# Altium schematic symbol library kmilo17pet-TI_MSP430.SchLib: 1463 symbols (part 46 of 130)
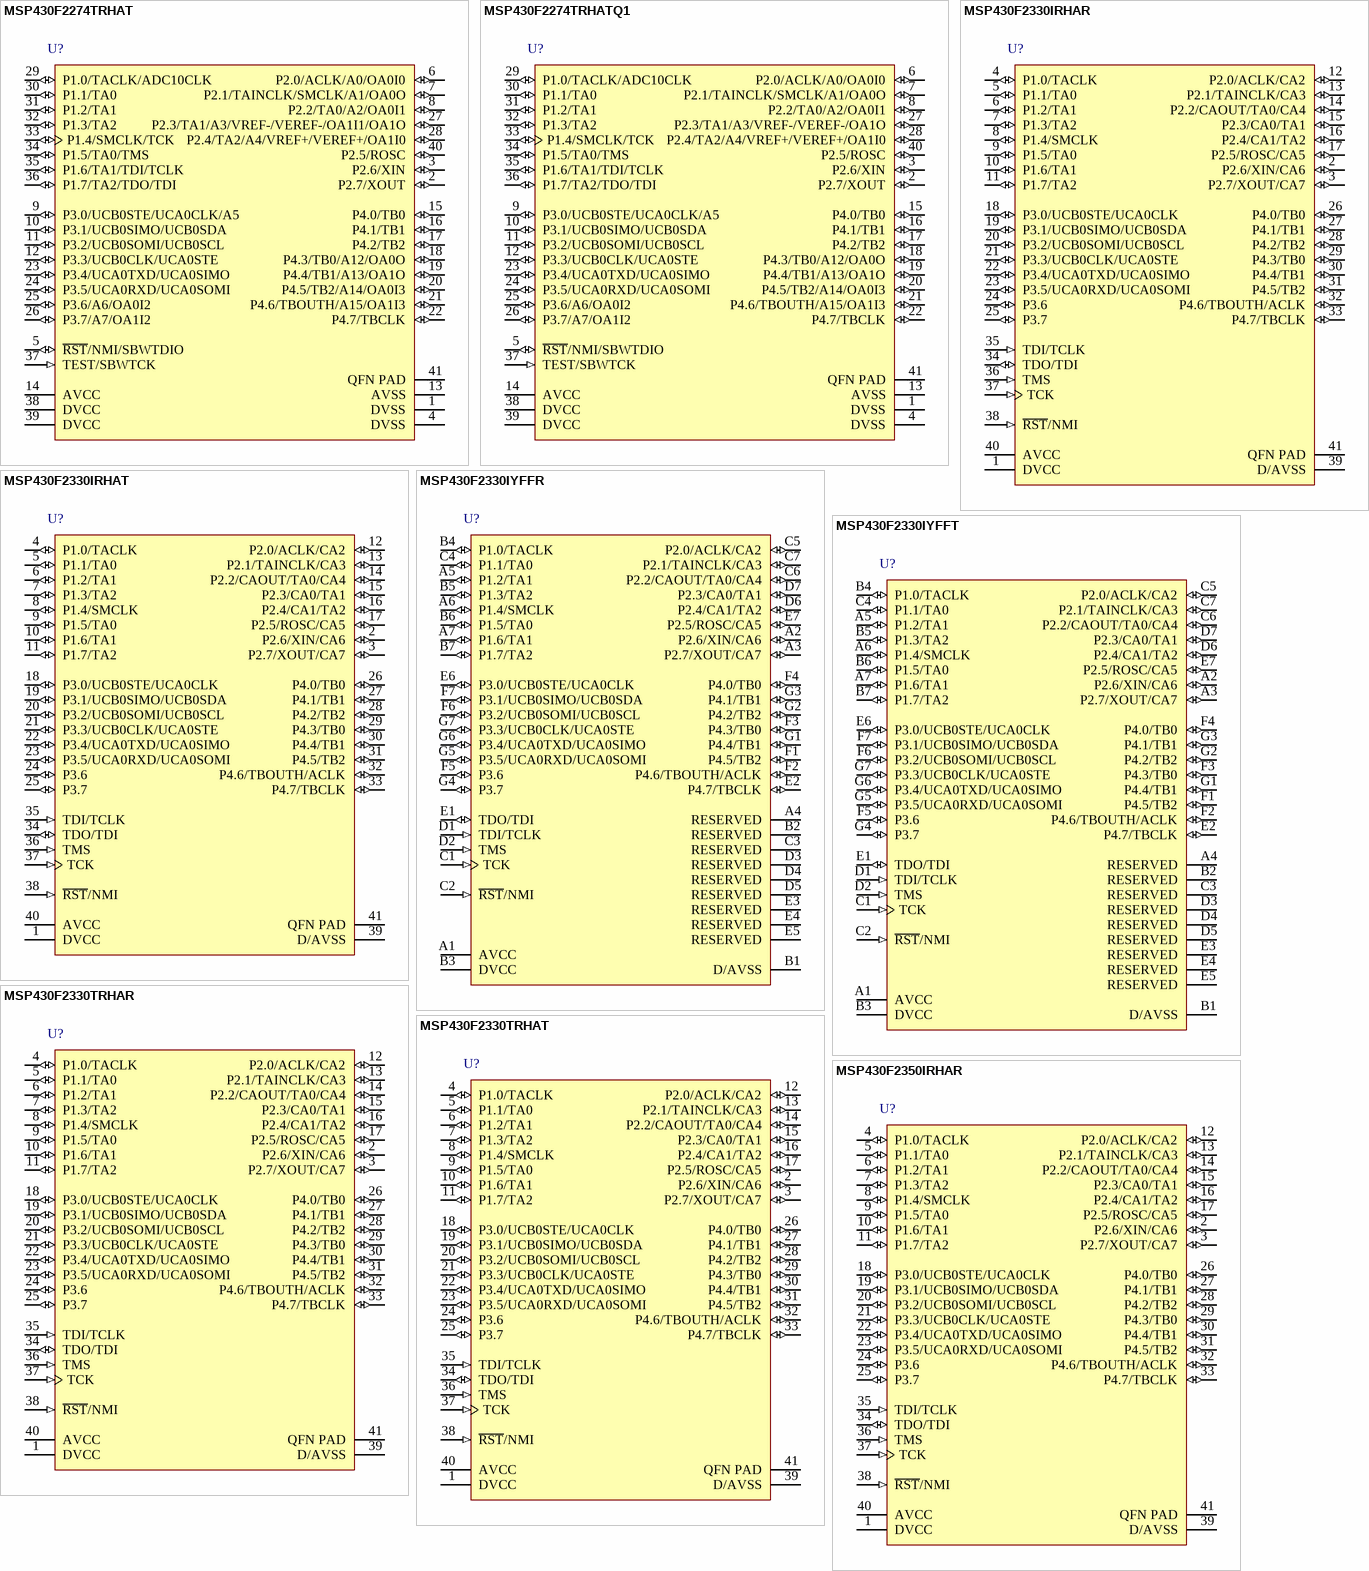
[diagram p359: symbols MSP430F2274TRHAT to MSP430F2350IRHAR]

## MSP430F2330IRHAR
designator U?
16 MHz Mixed Signal Microcontroller With 8 KB Flash, 1024 B SRAM and 32 GPIOs, -40 to 85 degC,40-pin QFN (RHA), Green (RoHS & no Sb/Br); Manufacturer: Texas Instruments; PartNumber: MSP430F2330IRHAR; ADC: Slope; Brown Out Reset: Yes; Flash(KB): 8; Frequency(MHz): 16; GPIO: 32; Multiplier: 16x16; SRAM(B): 1024; SubFamily: 2 Series, Extended Temp; Timers - 16-bit: 2; USCI_A (UART/LIN/IrDA/SPI): 1; DatasheetVersion: SLAS518E; PackageVersion: 4204276/E; PackageReference: RHA40-4150X4150TP; PackageDescription: 40-Pin Plastic Flat Pack, Body 6 x 6 mm, Pitch 0.5 mm; Supplier 1: Mouser; Supplier Part Number 1: N/A; Comparators: Yes; Eco-Plan: Green (RoHS & no Sb/Br); USCI_B (I2C & SPI): 1; Watchdog: Yes; Mounting Technology: Surface Mount; Code_JEDEC: MO-220; ComponentLink1Description: Manufacturer URL; ComponentLink1URL: http://www.ti.com/; ComponentLink2Description: Datasheet; ComponentLink2URL: http://www.ti.com/general/docs/lit/getliterature.tsp?genericPartNumber=MSP430F2330&fileType=pdf; ComponentLink3Description: Package Specification; ComponentLink3URL: http://www.ti.com/litv/pdf/mpqf135c
footprint TI-RHA40-4150X4150TP_N (QFN, 40-Leads, Body 6x6mm, Pitch 0.5mm, Thermal Pad 4.15x4.15mm, IPC Medium Density)
pins: 1 DVCC (power) "Digital supply voltage, positive terminal. Supplies all digital parts.", 2 P2.6/XIN/CA6 (io), 3 P2.7/XOUT/CA7 (io), 4 P1.0/TACLK (io), 5 P1.1/TA0 (io), 6 P1.2/TA1 (io), 7 P1.3/TA2 (io), 8 P1.4/SMCLK (io), 9 P1.5/TA0 (io), 10 P1.6/TA1 (io), 11 P1.7/TA2 (io), 12 P2.0/ACLK/CA2 (io), 13 P2.1/TAINCLK/CA3 (io), 14 P2.2/CAOUT/TA0/CA4 (io), 15 P2.3/CA0/TA1 (io), 16 P2.4/CA1/TA2 (io), 17 P2.5/ROSC/CA5 (io), 18 P3.0/UCB0STE/UCA0CLK (io), 19 P3.1/UCB0SIMO/UCB0SDA (io), 20 P3.2/UCB0SOMI/UCB0SCL (io), 21 P3.3/UCB0CLK/UCA0STE (io), 22 P3.4/UCA0TXD/UCA0SIMO (io), 23 P3.5/UCA0RXD/UCA0SOMI (io), 24 P3.6 (io) "General-purpose digital I/O pin", 25 P3.7 (io) "General-purpose digital I/O pin", 26 P4.0/TB0 (io), 27 P4.1/TB1 (io), 28 P4.2/TB2 (io), 29 P4.3/TB0 (io), 30 P4.4/TB1 (io), 31 P4.5/TB2 (io), 32 P4.6/TBOUTH/ACLK (io), 33 P4.7/TBCLK (io), 34 TDO/TDI (io), 35 TDI/TCLK (in), 36 TMS (in) "Test mode select. TMS is used as an input port for device programming and test.", 37 TCK (in) "Test clock. TCK is the clock input port for device programming and test.", 38 ~{RST}/NMI (in), 39 D/AVSS (power), 40 AVCC (power) "Analog supply voltage, positive terminal", 41 QFN PAD (power) "QFN package pad. Connection to D/AVSS recommended."

## MSP430F2330IRHAT
designator U?
16 MHz Mixed Signal Microcontroller With 8 KB Flash, 1024 B SRAM and 32 GPIOs, -40 to 85 degC,40-pin QFN (RHA), Green (RoHS & no Sb/Br); Manufacturer: Texas Instruments; PartNumber: MSP430F2330IRHAT; ADC: Slope; Brown Out Reset: Yes; Flash(KB): 8; Frequency(MHz): 16; GPIO: 32; Multiplier: 16x16; SRAM(B): 1024; SubFamily: 2 Series, Extended Temp; Timers - 16-bit: 2; USCI_A (UART/LIN/IrDA/SPI): 1; DatasheetVersion: SLAS518E; PackageVersion: 4204276/E; PackageReference: RHA40-4150X4150TP; PackageDescription: 40-Pin Plastic Flat Pack, Body 6 x 6 mm, Pitch 0.5 mm; Supplier 1: Digi-Key; Supplier Part Number 1: MSP430F2330IRHAR-ND; Supplier 2: Newark; Supplier Part Number 2: 45M9654; Supplier 3: Mouser; Supplier Part Number 3: 595-MSP430F2330IRHAR; Comparators: Yes; Eco-Plan: Green (RoHS & no Sb/Br); USCI_B (I2C & SPI): 1; Watchdog: Yes; Mounting Technology: Surface Mount; Code_JEDEC: MO-220; ComponentLink1Description: Manufacturer URL; ComponentLink1URL: http://www.ti.com/; ComponentLink2Description: Datasheet; ComponentLink2URL: http://www.ti.com/general/docs/lit/getliterature.tsp?genericPartNumber=MSP430F2330&fileType=pdf; ComponentLink3Description: Package Specification; ComponentLink3URL: http://www.ti.com/litv/pdf/mpqf135c
footprint TI-RHA40-4150X4150TP_N (QFN, 40-Leads, Body 6x6mm, Pitch 0.5mm, Thermal Pad 4.15x4.15mm, IPC Medium Density)
pins: 1 DVCC (power) "Digital supply voltage, positive terminal. Supplies all digital parts.", 2 P2.6/XIN/CA6 (io), 3 P2.7/XOUT/CA7 (io), 4 P1.0/TACLK (io), 5 P1.1/TA0 (io), 6 P1.2/TA1 (io), 7 P1.3/TA2 (io), 8 P1.4/SMCLK (io), 9 P1.5/TA0 (io), 10 P1.6/TA1 (io), 11 P1.7/TA2 (io), 12 P2.0/ACLK/CA2 (io), 13 P2.1/TAINCLK/CA3 (io), 14 P2.2/CAOUT/TA0/CA4 (io), 15 P2.3/CA0/TA1 (io), 16 P2.4/CA1/TA2 (io), 17 P2.5/ROSC/CA5 (io), 18 P3.0/UCB0STE/UCA0CLK (io), 19 P3.1/UCB0SIMO/UCB0SDA (io), 20 P3.2/UCB0SOMI/UCB0SCL (io), 21 P3.3/UCB0CLK/UCA0STE (io), 22 P3.4/UCA0TXD/UCA0SIMO (io), 23 P3.5/UCA0RXD/UCA0SOMI (io), 24 P3.6 (io) "General-purpose digital I/O pin", 25 P3.7 (io) "General-purpose digital I/O pin", 26 P4.0/TB0 (io), 27 P4.1/TB1 (io), 28 P4.2/TB2 (io), 29 P4.3/TB0 (io), 30 P4.4/TB1 (io), 31 P4.5/TB2 (io), 32 P4.6/TBOUTH/ACLK (io), 33 P4.7/TBCLK (io), 34 TDO/TDI (io), 35 TDI/TCLK (in), 36 TMS (in) "Test mode select. TMS is used as an input port for device programming and test.", 37 TCK (in) "Test clock. TCK is the clock input port for device programming and test.", 38 ~{RST}/NMI (in), 39 D/AVSS (power), 40 AVCC (power) "Analog supply voltage, positive terminal", 41 QFN PAD (power) "QFN package pad. Connection to D/AVSS recommended."

## MSP430F2330IYFFR
designator U?
16 MHz Mixed Signal Microcontroller With 8 KB Flash, 1024 B SRAM and 32 GPIOs, -40 to 85 degC, 49-pin BGA (YFF), Green (RoHS & no Sb/Br); Manufacturer: Texas Instruments; PartNumber: MSP430F2330IYFFR; ADC: Slope; Brown Out Reset: Yes; Flash(KB): 8; Frequency(MHz): 16; GPIO: 32; Multiplier: 16x16; SRAM(B): 1024; SubFamily: 2 Series, Extended Temp; Timers - 16-bit: 2; USCI_A (UART/LIN/IrDA/SPI): 1; DatasheetVersion: SLAS518E; PackageVersion: 4207625-16/AH; PackageReference: YFF49; PackageDescription: 49-Ball Silicon Grid Array, Body 3.2 x 3.2 mm, Pitch 0.4 mm; Supplier 1: Digi-Key; Supplier Part Number 1: 296-21746-2-ND; Supplier 2: Digi-Key; Supplier Part Number 2: 296-21746-1-ND; Supplier 3: Digi-Key; Supplier Part Number 3: 296-21746-6-ND; Supplier 4: Farnell; Supplier Part Number 4: 1649426; Supplier 5: Newark; Supplier Part Number 5: 45M9655; Supplier 6: Newark; Supplier Part Number 6: 15P0275; Supplier 7: Mouser; Supplier Part Number 7: 595-MSP430F2330IRHAT; Comparators: Yes; Eco-Plan: Green (RoHS & no Sb/Br); USCI_B (I2C & SPI): 1; Watchdog: Yes; Mounting Technology: Surface Mount; ComponentLink1Description: Manufacturer URL; ComponentLink1URL: http://www.ti.com/; ComponentLink2Description: Datasheet; ComponentLink2URL: http://www.ti.com/general/docs/lit/getliterature.tsp?genericPartNumber=MSP430F2330&fileType=pdf; ComponentLink3Description: Package Specification; ComponentLink3URL: http://www.ti.com/lit/ds/symlink/msp430f2350.pdf
footprint TI-YFF49-3200X3200DE (BGA, 49-Balls, Body 3.2x3.2mm, Pitch 0.4mm)
pins: A1 AVCC (power) "Analog supply voltage, positive terminal", A2 P2.6/XIN/CA6 (io), A3 P2.7/XOUT/CA7 (io), A4 RESERVED "BGA package GND balls. Connection to DVSS/AVSS is recommended.", A5 P1.2/TA1 (io), A6 P1.4/SMCLK (io), A7 P1.6/TA1 (io), B1 D/AVSS (power), B2 RESERVED "BGA package GND balls. Connection to DVSS/AVSS is recommended.", B3 DVCC (power) "Digital supply voltage, positive terminal. Supplies all digital parts", B4 P1.0/TACLK (io), B5 P1.3/TA2 (io), B6 P1.5/TA0 (io), B7 P1.7/TA2 (io), C1 TCK (in) "Test clock. TCK is the clock input port for device programming and test.", C2 ~{RST}/NMI (in), C3 RESERVED "BGA package GND balls. Connection to DVSS/AVSS is recommended.", C4 P1.1/TA0 (io), C5 P2.0/ACLK/CA2 (io), C6 P2.2/CAOUT/TA0/CA4 (io), C7 P2.1/TAINCLK/CA3 (io), D1 TDI/TCLK (in), D2 TMS (in) "Test mode select. TMS is used as an input port for device programming and test.", D3 RESERVED "BGA package GND balls. Connection to DVSS/AVSS is recommended.", D4 RESERVED "BGA package GND balls. Connection to DVSS/AVSS is recommended.", D5 RESERVED "BGA package GND balls. Connection to DVSS/AVSS is recommended.", D6 P2.4/CA1/TA2 (io), D7 P2.3/CA0/TA1 (io), E1 TDO/TDI (io), E2 P4.7/TBCLK (io), E3 RESERVED "BGA package GND balls. Connection to DVSS/AVSS is recommended.", E4 RESERVED "BGA package GND balls. Connection to DVSS/AVSS is recommended.", E5 RESERVED "BGA package GND balls. Connection to DVSS/AVSS is recommended.", E6 P3.0/UCB0STE/UCA0CLK (io), E7 P2.5/ROSC/CA5 (io), F1 P4.5/TB2 (io), F2 P4.6/TBOUTH/ACLK (io), F3 P4.3/TB0 (io), F4 P4.0/TB0 (io), F5 P3.6 (io) "General-purpose digital I/O pin", F6 P3.2/UCB0SOMI/UCB0SCL (io), F7 P3.1/UCB0SIMO/UCB0SDA (io), G1 P4.4/TB1 (io), G2 P4.2/TB2 (io), G3 P4.1/TB1 (io), G4 P3.7 (io) "General-purpose digital I/O pin", G5 P3.5/UCA0RXD/UCA0SOMI (io), G6 P3.4/UCA0TXD/UCA0SIMO (io), G7 P3.3/UCB0CLK/UCA0STE (io)

## MSP430F2330IYFFT
designator U?
16 MHz Mixed Signal Microcontroller With 8 KB Flash, 1024 B SRAM and 32 GPIOs, -40 to 85 degC, 49-pin BGA (YFF), Green (RoHS & no Sb/Br); Manufacturer: Texas Instruments; PartNumber: MSP430F2330IYFFT; ADC: Slope; Brown Out Reset: Yes; Flash(KB): 8; Frequency(MHz): 16; GPIO: 32; Multiplier: 16x16; SRAM(B): 1024; SubFamily: 2 Series, Extended Temp; Timers - 16-bit: 2; USCI_A (UART/LIN/IrDA/SPI): 1; DatasheetVersion: SLAS518E; PackageVersion: 4207625-16/AH; PackageReference: YFF49; PackageDescription: 49-Ball Silicon Grid Array, Body 3.2 x 3.2 mm, Pitch 0.4 mm; Supplier 1: Digi-Key; Supplier Part Number 1: MSP430F2330IYFFR-ND; Supplier 2: Mouser; Supplier Part Number 2: 595-MSP430F2330IYFFR; Comparators: Yes; Eco-Plan: Green (RoHS & no Sb/Br); USCI_B (I2C & SPI): 1; Watchdog: Yes; Mounting Technology: Surface Mount; ComponentLink1Description: Manufacturer URL; ComponentLink1URL: http://www.ti.com/; ComponentLink2Description: Datasheet; ComponentLink2URL: http://www.ti.com/general/docs/lit/getliterature.tsp?genericPartNumber=MSP430F2330&fileType=pdf; ComponentLink3Description: Package Specification; ComponentLink3URL: http://www.ti.com/lit/ds/symlink/msp430f2350.pdf
footprint TI-YFF49-3200X3200DE (BGA, 49-Balls, Body 3.2x3.2mm, Pitch 0.4mm)
pins: A1 AVCC (power) "Analog supply voltage, positive terminal", A2 P2.6/XIN/CA6 (io), A3 P2.7/XOUT/CA7 (io), A4 RESERVED "BGA package GND balls. Connection to DVSS/AVSS is recommended.", A5 P1.2/TA1 (io), A6 P1.4/SMCLK (io), A7 P1.6/TA1 (io), B1 D/AVSS (power), B2 RESERVED "BGA package GND balls. Connection to DVSS/AVSS is recommended.", B3 DVCC (power) "Digital supply voltage, positive terminal. Supplies all digital parts", B4 P1.0/TACLK (io), B5 P1.3/TA2 (io), B6 P1.5/TA0 (io), B7 P1.7/TA2 (io), C1 TCK (in) "Test clock. TCK is the clock input port for device programming and test.", C2 ~{RST}/NMI (in), C3 RESERVED "BGA package GND balls. Connection to DVSS/AVSS is recommended.", C4 P1.1/TA0 (io), C5 P2.0/ACLK/CA2 (io), C6 P2.2/CAOUT/TA0/CA4 (io), C7 P2.1/TAINCLK/CA3 (io), D1 TDI/TCLK (in), D2 TMS (in) "Test mode select. TMS is used as an input port for device programming and test.", D3 RESERVED "BGA package GND balls. Connection to DVSS/AVSS is recommended.", D4 RESERVED "BGA package GND balls. Connection to DVSS/AVSS is recommended.", D5 RESERVED "BGA package GND balls. Connection to DVSS/AVSS is recommended.", D6 P2.4/CA1/TA2 (io), D7 P2.3/CA0/TA1 (io), E1 TDO/TDI (io), E2 P4.7/TBCLK (io), E3 RESERVED "BGA package GND balls. Connection to DVSS/AVSS is recommended.", E4 RESERVED "BGA package GND balls. Connection to DVSS/AVSS is recommended.", E5 RESERVED "BGA package GND balls. Connection to DVSS/AVSS is recommended.", E6 P3.0/UCB0STE/UCA0CLK (io), E7 P2.5/ROSC/CA5 (io), F1 P4.5/TB2 (io), F2 P4.6/TBOUTH/ACLK (io), F3 P4.3/TB0 (io), F4 P4.0/TB0 (io), F5 P3.6 (io) "General-purpose digital I/O pin", F6 P3.2/UCB0SOMI/UCB0SCL (io), F7 P3.1/UCB0SIMO/UCB0SDA (io), G1 P4.4/TB1 (io), G2 P4.2/TB2 (io), G3 P4.1/TB1 (io), G4 P3.7 (io) "General-purpose digital I/O pin", G5 P3.5/UCA0RXD/UCA0SOMI (io), G6 P3.4/UCA0TXD/UCA0SIMO (io), G7 P3.3/UCB0CLK/UCA0STE (io)

## MSP430F2330TRHAR
designator U?
16 MHz Mixed Signal Microcontroller With 8 KB Flash, 1024 B SRAM and 32 GPIOs, -40 to 105 degC, 40-pin QFN (RHA), Green (RoHS & no Sb/Br); Manufacturer: Texas Instruments; PartNumber: MSP430F2330TRHAR; ADC: Slope; Brown Out Reset: Yes; Flash(KB): 8; Frequency(MHz): 16; GPIO: 32; Multiplier: 16x16; SRAM(B): 1024; SubFamily: 2 Series, Extended Temp; Timers - 16-bit: 2; USCI_A (UART/LIN/IrDA/SPI): 1; DatasheetVersion: SLAS518E; PackageVersion: 4204276/E; PackageReference: RHA40-4150X4150TP; PackageDescription: 40-Pin Plastic Flat Pack, Body 6 x 6 mm, Pitch 0.5 mm; Supplier 1: Digi-Key; Supplier Part Number 1: MSP430F2330IYFFT-ND; Supplier 2: Mouser; Supplier Part Number 2: 595-MSP430F2330IYFFT; Comparators: Yes; Eco-Plan: Green (RoHS & no Sb/Br); USCI_B (I2C & SPI): 1; Watchdog: Yes; Mounting Technology: Surface Mount; Code_JEDEC: MO-220; ComponentLink1Description: Manufacturer URL; ComponentLink1URL: http://www.ti.com/; ComponentLink2Description: Datasheet; ComponentLink2URL: http://www.ti.com/general/docs/lit/getliterature.tsp?genericPartNumber=MSP430F2330&fileType=pdf; ComponentLink3Description: Package Specification; ComponentLink3URL: http://www.ti.com/litv/pdf/mpqf135c
footprint TI-RHA40-4150X4150TP_N (QFN, 40-Leads, Body 6x6mm, Pitch 0.5mm, Thermal Pad 4.15x4.15mm, IPC Medium Density)
pins: 1 DVCC (power) "Digital supply voltage, positive terminal. Supplies all digital parts.", 2 P2.6/XIN/CA6 (io), 3 P2.7/XOUT/CA7 (io), 4 P1.0/TACLK (io), 5 P1.1/TA0 (io), 6 P1.2/TA1 (io), 7 P1.3/TA2 (io), 8 P1.4/SMCLK (io), 9 P1.5/TA0 (io), 10 P1.6/TA1 (io), 11 P1.7/TA2 (io), 12 P2.0/ACLK/CA2 (io), 13 P2.1/TAINCLK/CA3 (io), 14 P2.2/CAOUT/TA0/CA4 (io), 15 P2.3/CA0/TA1 (io), 16 P2.4/CA1/TA2 (io), 17 P2.5/ROSC/CA5 (io), 18 P3.0/UCB0STE/UCA0CLK (io), 19 P3.1/UCB0SIMO/UCB0SDA (io), 20 P3.2/UCB0SOMI/UCB0SCL (io), 21 P3.3/UCB0CLK/UCA0STE (io), 22 P3.4/UCA0TXD/UCA0SIMO (io), 23 P3.5/UCA0RXD/UCA0SOMI (io), 24 P3.6 (io) "General-purpose digital I/O pin", 25 P3.7 (io) "General-purpose digital I/O pin", 26 P4.0/TB0 (io), 27 P4.1/TB1 (io), 28 P4.2/TB2 (io), 29 P4.3/TB0 (io), 30 P4.4/TB1 (io), 31 P4.5/TB2 (io), 32 P4.6/TBOUTH/ACLK (io), 33 P4.7/TBCLK (io), 34 TDO/TDI (io), 35 TDI/TCLK (in), 36 TMS (in) "Test mode select. TMS is used as an input port for device programming and test.", 37 TCK (in) "Test clock. TCK is the clock input port for device programming and test.", 38 ~{RST}/NMI (in), 39 D/AVSS (power), 40 AVCC (power) "Analog supply voltage, positive terminal", 41 QFN PAD (power) "QFN package pad. Connection to D/AVSS recommended."

## MSP430F2330TRHAT
designator U?
16 MHz Mixed Signal Microcontroller With 8 KB Flash, 1024 B SRAM and 32 GPIOs, -40 to 105 degC, 40-pin QFN (RHA), Green (RoHS & no Sb/Br); Manufacturer: Texas Instruments; PartNumber: MSP430F2330TRHAT; ADC: Slope; Brown Out Reset: Yes; Flash(KB): 8; Frequency(MHz): 16; GPIO: 32; Multiplier: 16x16; SRAM(B): 1024; SubFamily: 2 Series, Extended Temp; Timers - 16-bit: 2; USCI_A (UART/LIN/IrDA/SPI): 1; DatasheetVersion: SLAS518E; PackageVersion: 4204276/E; PackageReference: RHA40-4150X4150TP; PackageDescription: 40-Pin Plastic Flat Pack, Body 6 x 6 mm, Pitch 0.5 mm; Supplier 1: Digi-Key; Supplier Part Number 1: MSP430F2330TRHAR-ND; Supplier 2: Mouser; Supplier Part Number 2: 595-MSP430F2330TRHAR; Comparators: Yes; Eco-Plan: Green (RoHS & no Sb/Br); USCI_B (I2C & SPI): 1; Watchdog: Yes; Mounting Technology: Surface Mount; Code_JEDEC: MO-220; ComponentLink1Description: Manufacturer URL; ComponentLink1URL: http://www.ti.com/; ComponentLink2Description: Datasheet; ComponentLink2URL: http://www.ti.com/general/docs/lit/getliterature.tsp?genericPartNumber=MSP430F2330&fileType=pdf; ComponentLink3Description: Package Specification; ComponentLink3URL: http://www.ti.com/litv/pdf/mpqf135c
footprint TI-RHA40-4150X4150TP_N (QFN, 40-Leads, Body 6x6mm, Pitch 0.5mm, Thermal Pad 4.15x4.15mm, IPC Medium Density)
pins: 1 DVCC (power) "Digital supply voltage, positive terminal. Supplies all digital parts.", 2 P2.6/XIN/CA6 (io), 3 P2.7/XOUT/CA7 (io), 4 P1.0/TACLK (io), 5 P1.1/TA0 (io), 6 P1.2/TA1 (io), 7 P1.3/TA2 (io), 8 P1.4/SMCLK (io), 9 P1.5/TA0 (io), 10 P1.6/TA1 (io), 11 P1.7/TA2 (io), 12 P2.0/ACLK/CA2 (io), 13 P2.1/TAINCLK/CA3 (io), 14 P2.2/CAOUT/TA0/CA4 (io), 15 P2.3/CA0/TA1 (io), 16 P2.4/CA1/TA2 (io), 17 P2.5/ROSC/CA5 (io), 18 P3.0/UCB0STE/UCA0CLK (io), 19 P3.1/UCB0SIMO/UCB0SDA (io), 20 P3.2/UCB0SOMI/UCB0SCL (io), 21 P3.3/UCB0CLK/UCA0STE (io), 22 P3.4/UCA0TXD/UCA0SIMO (io), 23 P3.5/UCA0RXD/UCA0SOMI (io), 24 P3.6 (io) "General-purpose digital I/O pin", 25 P3.7 (io) "General-purpose digital I/O pin", 26 P4.0/TB0 (io), 27 P4.1/TB1 (io), 28 P4.2/TB2 (io), 29 P4.3/TB0 (io), 30 P4.4/TB1 (io), 31 P4.5/TB2 (io), 32 P4.6/TBOUTH/ACLK (io), 33 P4.7/TBCLK (io), 34 TDO/TDI (io), 35 TDI/TCLK (in), 36 TMS (in) "Test mode select. TMS is used as an input port for device programming and test.", 37 TCK (in) "Test clock. TCK is the clock input port for device programming and test.", 38 ~{RST}/NMI (in), 39 D/AVSS (power), 40 AVCC (power) "Analog supply voltage, positive terminal", 41 QFN PAD (power) "QFN package pad. Connection to D/AVSS recommended."

## MSP430F2350IRHAR
designator U?
16 MHz Mixed Signal Microcontroller with 16 KB Flash, 2048 B SRAM and 32 GPIOs, -40 to 85 degC, 40-pin QFN (RHA), Green (RoHS & no Sb/Br); Manufacturer: Texas Instruments; PartNumber: MSP430F2350IRHAR; ADC: Slope; Brown Out Reset: Yes; Flash(KB): 16; GPIO: 32; Multiplier: 16x16; SRAM(B): 2048; SubFamily: 2 Series, Extended Temp; Timers - 16-bit: 2; USCI_A (UART/LIN/IrDA/SPI): 1; DatasheetVersion: SLAS518E; PackageVersion: 4204276/E; PackageReference: RHA40-4150X4150TP; PackageDescription: 40-Pin Plastic Flat Pack, Body 6 x 6 mm, Pitch 0.5 mm; Supplier 1: Digi-Key; Supplier Part Number 1: 296-31685-2-ND; Supplier 2: Digi-Key; Supplier Part Number 2: 296-31685-1-ND; Supplier 3: Digi-Key; Supplier Part Number 3: 296-31685-6-ND; Supplier 4: Farnell; Supplier Part Number 4: 1649429; Supplier 5: Newark; Supplier Part Number 5: 65M1697; Supplier 6: Mouser; Supplier Part Number 6: 595-MSP430F233TRGCT; Comparators: Yes; Eco-Plan: Green (RoHS & no Sb/Br); Frequency(MHz): 16; USCI_B (I2C & SPI): 1; Watchdog: Yes; Mounting Technology: Surface Mount; Code_JEDEC: MO-220; ComponentLink1Description: Manufacturer URL; ComponentLink1URL: http://www.ti.com/; ComponentLink2Description: Datasheet; ComponentLink2URL: http://www.ti.com/general/docs/lit/getliterature.tsp?genericPartNumber=MSP430F2350&fileType=pdf; ComponentLink3Description: Package Specification; ComponentLink3URL: http://www.ti.com/litv/pdf/mpqf135c
footprint TI-RHA40-4150X4150TP_N (QFN, 40-Leads, Body 6x6mm, Pitch 0.5mm, Thermal Pad 4.15x4.15mm, IPC Medium Density)
pins: 1 DVCC (power) "Digital supply voltage, positive terminal. Supplies all digital parts.", 2 P2.6/XIN/CA6 (io), 3 P2.7/XOUT/CA7 (io), 4 P1.0/TACLK (io), 5 P1.1/TA0 (io), 6 P1.2/TA1 (io), 7 P1.3/TA2 (io), 8 P1.4/SMCLK (io), 9 P1.5/TA0 (io), 10 P1.6/TA1 (io), 11 P1.7/TA2 (io), 12 P2.0/ACLK/CA2 (io), 13 P2.1/TAINCLK/CA3 (io), 14 P2.2/CAOUT/TA0/CA4 (io), 15 P2.3/CA0/TA1 (io), 16 P2.4/CA1/TA2 (io), 17 P2.5/ROSC/CA5 (io), 18 P3.0/UCB0STE/UCA0CLK (io), 19 P3.1/UCB0SIMO/UCB0SDA (io), 20 P3.2/UCB0SOMI/UCB0SCL (io), 21 P3.3/UCB0CLK/UCA0STE (io), 22 P3.4/UCA0TXD/UCA0SIMO (io), 23 P3.5/UCA0RXD/UCA0SOMI (io), 24 P3.6 (io) "General-purpose digital I/O pin", 25 P3.7 (io) "General-purpose digital I/O pin", 26 P4.0/TB0 (io), 27 P4.1/TB1 (io), 28 P4.2/TB2 (io), 29 P4.3/TB0 (io), 30 P4.4/TB1 (io), 31 P4.5/TB2 (io), 32 P4.6/TBOUTH/ACLK (io), 33 P4.7/TBCLK (io), 34 TDO/TDI (io), 35 TDI/TCLK (in), 36 TMS (in) "Test mode select. TMS is used as an input port for device programming and test.", 37 TCK (in) "Test clock. TCK is the clock input port for device programming and test.", 38 ~{RST}/NMI (in), 39 D/AVSS (power), 40 AVCC (power) "Analog supply voltage, positive terminal", 41 QFN PAD (power) "QFN package pad. Connection to D/AVSS recommended."

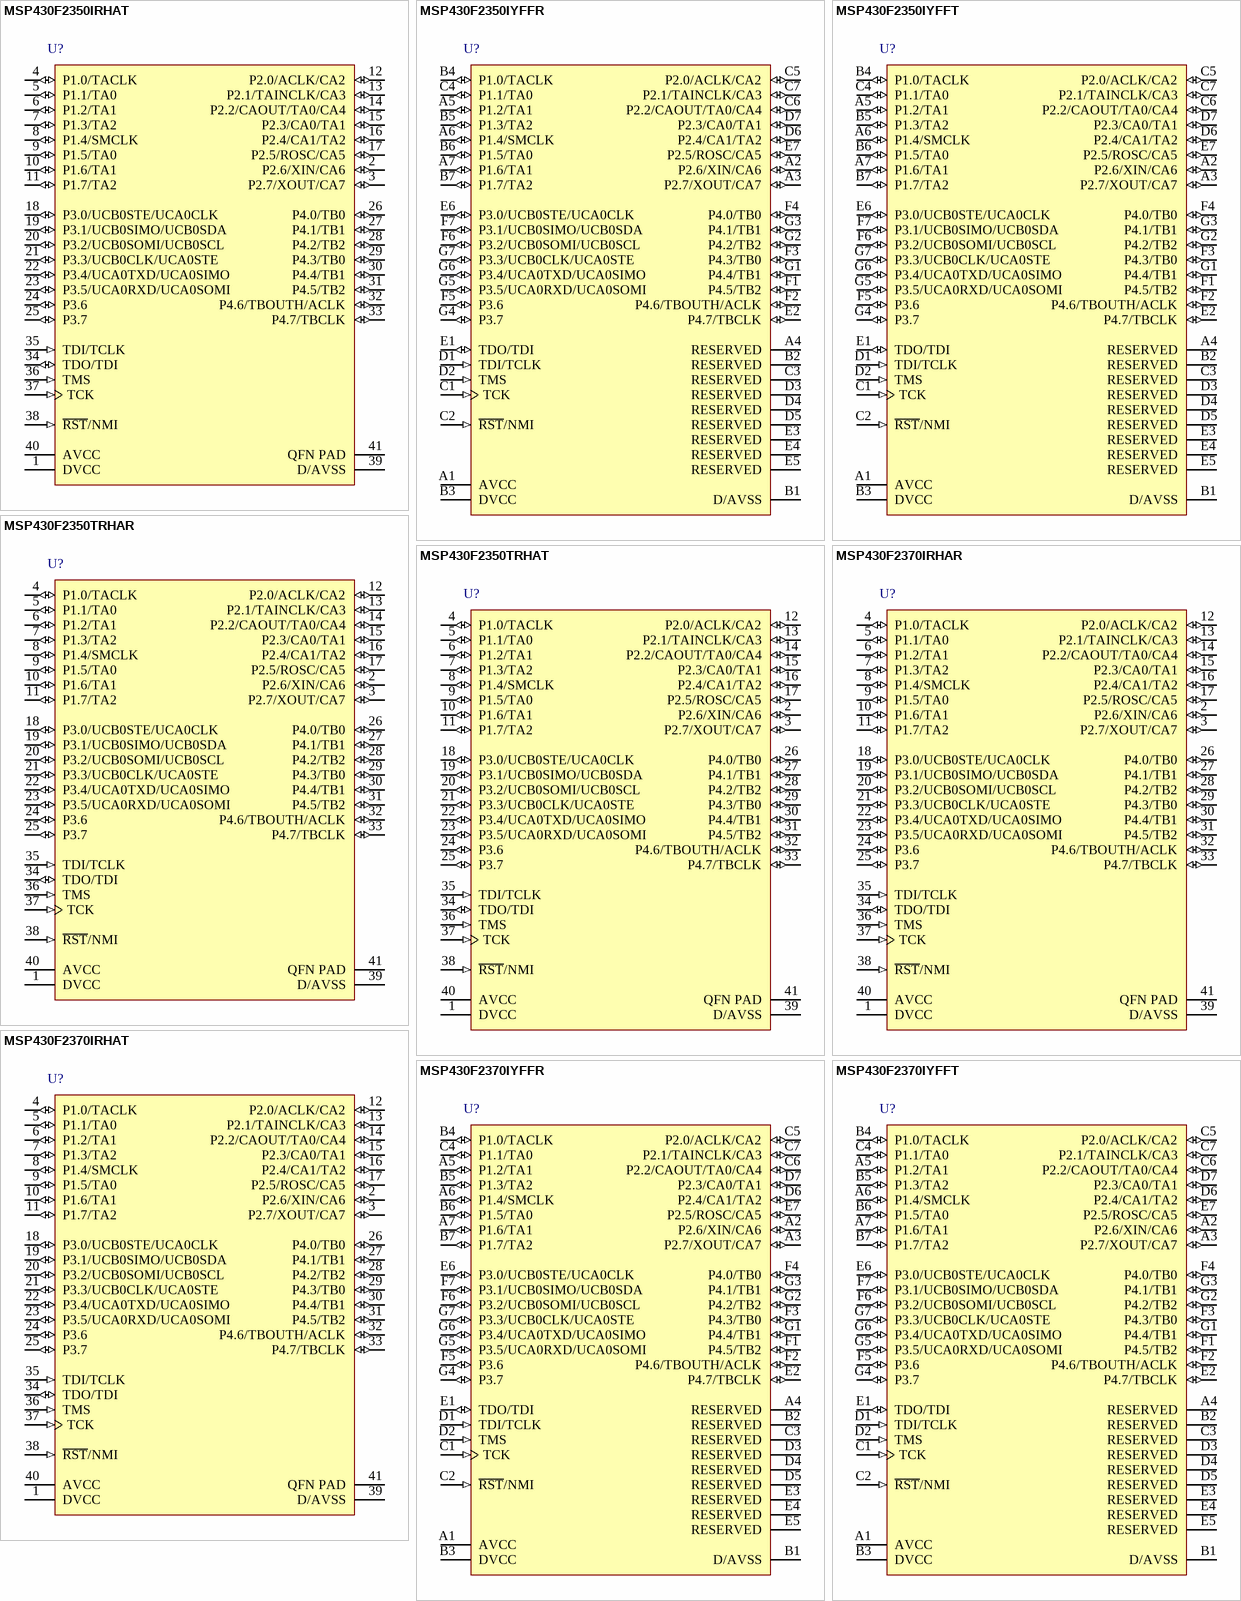
[diagram p68: symbols MSP430F2350IRHAT to MSP430F2370IYFFT]

## MSP430F2350IRHAT
designator U?
16 MHz Mixed Signal Microcontroller with 16 KB Flash, 2048 B SRAM and 32 GPIOs, -40 to 85 degC, 40-pin QFN (RHA), Green (RoHS & no Sb/Br); Manufacturer: Texas Instruments; PartNumber: MSP430F2350IRHAT; ADC: Slope; Brown Out Reset: Yes; Flash(KB): 16; GPIO: 32; Multiplier: 16x16; SRAM(B): 2048; SubFamily: 2 Series, Extended Temp; Timers - 16-bit: 2; USCI_A (UART/LIN/IrDA/SPI): 1; DatasheetVersion: SLAS518E; PackageVersion: 4204276/E; PackageReference: RHA40-4150X4150TP; PackageDescription: 40-Pin Plastic Flat Pack, Body 6 x 6 mm, Pitch 0.5 mm; Supplier 1: Digi-Key; Supplier Part Number 1: MSP430F2350IRHAR-ND; Supplier 2: Newark; Supplier Part Number 2: 45M9658; Supplier 3: Mouser; Supplier Part Number 3: 595-MSP430F2350IRHAR; Comparators: Yes; Eco-Plan: Green (RoHS & no Sb/Br); Frequency(MHz): 16; USCI_B (I2C & SPI): 1; Watchdog: Yes; Mounting Technology: Surface Mount; Code_JEDEC: MO-220; ComponentLink1Description: Manufacturer URL; ComponentLink1URL: http://www.ti.com/; ComponentLink2Description: Datasheet; ComponentLink2URL: http://www.ti.com/general/docs/lit/getliterature.tsp?genericPartNumber=MSP430F2350&fileType=pdf; ComponentLink3Description: Package Specification; ComponentLink3URL: http://www.ti.com/litv/pdf/mpqf135c
footprint TI-RHA40-4150X4150TP_N (QFN, 40-Leads, Body 6x6mm, Pitch 0.5mm, Thermal Pad 4.15x4.15mm, IPC Medium Density)
pins: 1 DVCC (power) "Digital supply voltage, positive terminal. Supplies all digital parts.", 2 P2.6/XIN/CA6 (io), 3 P2.7/XOUT/CA7 (io), 4 P1.0/TACLK (io), 5 P1.1/TA0 (io), 6 P1.2/TA1 (io), 7 P1.3/TA2 (io), 8 P1.4/SMCLK (io), 9 P1.5/TA0 (io), 10 P1.6/TA1 (io), 11 P1.7/TA2 (io), 12 P2.0/ACLK/CA2 (io), 13 P2.1/TAINCLK/CA3 (io), 14 P2.2/CAOUT/TA0/CA4 (io), 15 P2.3/CA0/TA1 (io), 16 P2.4/CA1/TA2 (io), 17 P2.5/ROSC/CA5 (io), 18 P3.0/UCB0STE/UCA0CLK (io), 19 P3.1/UCB0SIMO/UCB0SDA (io), 20 P3.2/UCB0SOMI/UCB0SCL (io), 21 P3.3/UCB0CLK/UCA0STE (io), 22 P3.4/UCA0TXD/UCA0SIMO (io), 23 P3.5/UCA0RXD/UCA0SOMI (io), 24 P3.6 (io) "General-purpose digital I/O pin", 25 P3.7 (io) "General-purpose digital I/O pin", 26 P4.0/TB0 (io), 27 P4.1/TB1 (io), 28 P4.2/TB2 (io), 29 P4.3/TB0 (io), 30 P4.4/TB1 (io), 31 P4.5/TB2 (io), 32 P4.6/TBOUTH/ACLK (io), 33 P4.7/TBCLK (io), 34 TDO/TDI (io), 35 TDI/TCLK (in), 36 TMS (in) "Test mode select. TMS is used as an input port for device programming and test.", 37 TCK (in) "Test clock. TCK is the clock input port for device programming and test.", 38 ~{RST}/NMI (in), 39 D/AVSS (power), 40 AVCC (power) "Analog supply voltage, positive terminal", 41 QFN PAD (power) "QFN package pad. Connection to D/AVSS recommended."

## MSP430F2350IYFFR
designator U?
16 MHz Mixed Signal Microcontroller with 16 KB Flash, 2048 B SRAM and 32 GPIOs, -40 to 85 degC, 49-pin BGA (YFF), Green (RoHS & no Sb/Br); Manufacturer: Texas Instruments; PartNumber: MSP430F2350IYFFR; ADC: Slope; Brown Out Reset: Yes; Flash(KB): 16; GPIO: 32; Multiplier: 16x16; SRAM(B): 2048; SubFamily: 2 Series, Extended Temp; Timers - 16-bit: 2; USCI_A (UART/LIN/IrDA/SPI): 1; DatasheetVersion: SLAS518E; PackageVersion: 4207625-16/AH; PackageReference: YFF49; PackageDescription: 49-Ball Silicon Grid Array, Body 3.2 x 3.2 mm, Pitch 0.4 mm; Supplier 1: Digi-Key; Supplier Part Number 1: 296-21748-2-ND; Supplier 2: Digi-Key; Supplier Part Number 2: 296-21748-1-ND; Supplier 3: Farnell; Supplier Part Number 3: 1649430; Supplier 4: Newark; Supplier Part Number 4: 15P0277; Supplier 5: Newark; Supplier Part Number 5: 45M9659; Supplier 6: Mouser; Supplier Part Number 6: 595-MSP430F2350IRHAT; Comparators: Yes; Eco-Plan: Green (RoHS & no Sb/Br); Frequency(MHz): 16; USCI_B (I2C & SPI): 1; Watchdog: Yes; Mounting Technology: Surface Mount; ComponentLink1Description: Manufacturer URL; ComponentLink1URL: http://www.ti.com/; ComponentLink2Description: Datasheet; ComponentLink2URL: http://www.ti.com/general/docs/lit/getliterature.tsp?genericPartNumber=MSP430F2350&fileType=pdf; ComponentLink3Description: Package Specification; ComponentLink3URL: http://www.ti.com/lit/ds/symlink/msp430f2350.pdf
footprint TI-YFF49-3200X3200DE (BGA, 49-Balls, Body 3.2x3.2mm, Pitch 0.4mm)
pins: A1 AVCC (power) "Analog supply voltage, positive terminal", A2 P2.6/XIN/CA6 (io), A3 P2.7/XOUT/CA7 (io), A4 RESERVED "BGA package GND balls. Connection to DVSS/AVSS is recommended.", A5 P1.2/TA1 (io), A6 P1.4/SMCLK (io), A7 P1.6/TA1 (io), B1 D/AVSS (power), B2 RESERVED "BGA package GND balls. Connection to DVSS/AVSS is recommended.", B3 DVCC (power) "Digital supply voltage, positive terminal. Supplies all digital parts", B4 P1.0/TACLK (io), B5 P1.3/TA2 (io), B6 P1.5/TA0 (io), B7 P1.7/TA2 (io), C1 TCK (in) "Test clock. TCK is the clock input port for device programming and test.", C2 ~{RST}/NMI (in), C3 RESERVED "BGA package GND balls. Connection to DVSS/AVSS is recommended.", C4 P1.1/TA0 (io), C5 P2.0/ACLK/CA2 (io), C6 P2.2/CAOUT/TA0/CA4 (io), C7 P2.1/TAINCLK/CA3 (io), D1 TDI/TCLK (in), D2 TMS (in) "Test mode select. TMS is used as an input port for device programming and test.", D3 RESERVED "BGA package GND balls. Connection to DVSS/AVSS is recommended.", D4 RESERVED "BGA package GND balls. Connection to DVSS/AVSS is recommended.", D5 RESERVED "BGA package GND balls. Connection to DVSS/AVSS is recommended.", D6 P2.4/CA1/TA2 (io), D7 P2.3/CA0/TA1 (io), E1 TDO/TDI (io), E2 P4.7/TBCLK (io), E3 RESERVED "BGA package GND balls. Connection to DVSS/AVSS is recommended.", E4 RESERVED "BGA package GND balls. Connection to DVSS/AVSS is recommended.", E5 RESERVED "BGA package GND balls. Connection to DVSS/AVSS is recommended.", E6 P3.0/UCB0STE/UCA0CLK (io), E7 P2.5/ROSC/CA5 (io), F1 P4.5/TB2 (io), F2 P4.6/TBOUTH/ACLK (io), F3 P4.3/TB0 (io), F4 P4.0/TB0 (io), F5 P3.6 (io) "General-purpose digital I/O pin", F6 P3.2/UCB0SOMI/UCB0SCL (io), F7 P3.1/UCB0SIMO/UCB0SDA (io), G1 P4.4/TB1 (io), G2 P4.2/TB2 (io), G3 P4.1/TB1 (io), G4 P3.7 (io) "General-purpose digital I/O pin", G5 P3.5/UCA0RXD/UCA0SOMI (io), G6 P3.4/UCA0TXD/UCA0SIMO (io), G7 P3.3/UCB0CLK/UCA0STE (io)